# Altium integrated library FlybackKutuphane.IntLib: 24 symbols
Pins are listed as number, name and electrical type; pins without a type are passive.

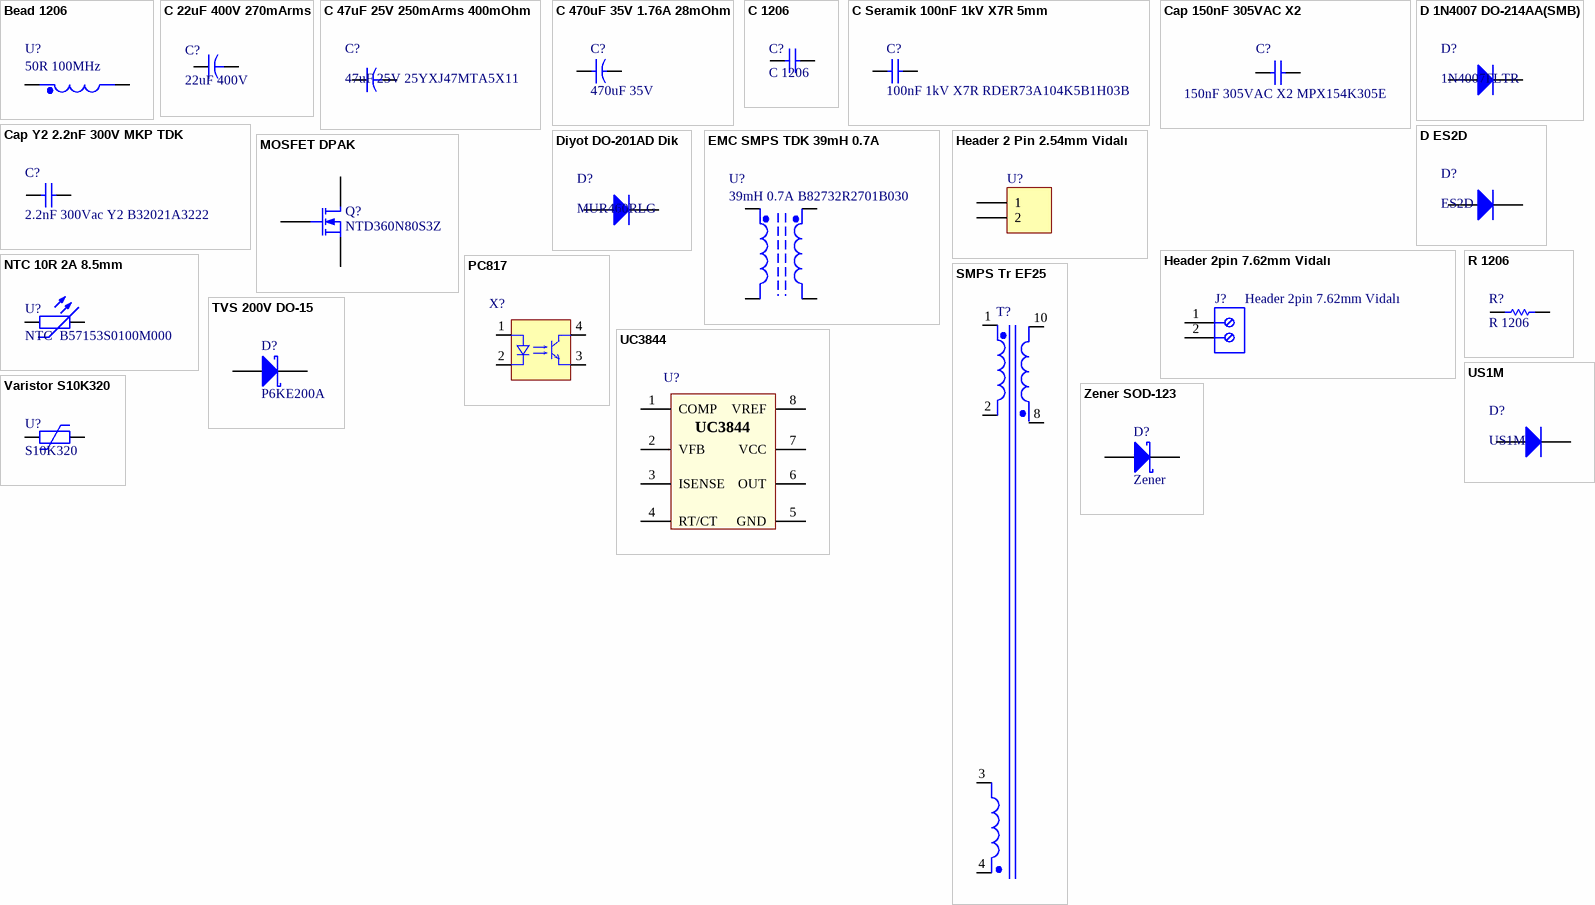
[diagram p0: symbols Bead 1206 to Zener SOD-123]

## Bead 1206
designator U?, comment 50R 100MHz
SMD 1206
footprint 1206 Bead
pins: 1, 2

## C 22uF 400V 270mArms
designator C?, comment 22uF 400V
400AX22MEFC12.5X16; Manufacturer_Name: AVX; Manufacturer_Part_Number: TPSE107K020R0150; Allied_Number: 70002020; Datasheet Link: http://datasheets.avx.com/TPS.pdf; Height: 4.3mm; Mouser Part Number: 581-TPSE107K020R0150; Mouser Price/Stock: https://www.mouser.com/Search/Refine.aspx?Keyword=581-TPSE107K020R0150; RS Part Number: 1359911P; RS Price/Stock: http://uk.rs-online.com/web/p/products/1359911P; Allied Price/Stock: http://www.alliedelec.com/avx-tpse107k020r0150/70002020/
footprint 22uF 400V (400AX22MEFC12.5X16)
pins: 1, 2

## C 47uF 25V 250mArms 400mOhm
designator C?, comment 47uF 25V 25YXJ47MTA5X11
1189-1590-1-ND; ComponentLink1Description: http://www.rubycon.co.jp/en/catalog/e_pdfs/aluminum/e_px.pdf
footprint CAPPRD200W50D525H1250
pins: 1, 2

## C 470uF 35V 1.76A 28mOhm
designator C?, comment 470uF 35V
860040475008; Published: 8-Jun-2000; LatestRevisionDate: 17-Jul-2002; LatestRevisionNote: Re-released for DXP Platform.; PackageReference: RAD-0.3; Publisher: Altium Limited; PackageDescription: Radial Cap, Thru-Hole; 2 Leads; 0.3 in Pin Spacing
footprint CAPPRD500W60D1025H1750
pins: 1, 2

## C 1206
designator C?
SMD 1206; Deger: *
footprint 1206
pins: 1, 2

## C Seramik 100nF 1kV X7R 5mm
designator C?, comment 100nF 1kV X7R RDER73A104K5B1H03B
490-8944-ND; Published: 8-Jun-2000; LatestRevisionDate: 17-Jul-2002; LatestRevisionNote: Re-released for DXP Platform.; PackageReference: RAD-0.3; Publisher: Altium Limited; PackageDescription: Radial Cap, Thru-Hole; 2 Leads; 0.3 in Pin Spacing
footprint RCE7U2J333J5B1H03B
pins: 1, 2

## Cap 150nF 305VAC X2
designator C?, comment 150nF 305VAC X2 MPX154K305E
1572-1789-ND; Part Number: 890273322005CS; Insulation Resistance: 30000MOhm; Dissipation Factor@100kHz: 0.26%; Dissipation Factor@1kHz: 0.1%; Pitch: 7.5mm; Rated Voltage: 250VDC; Rate of Voltage Rise: 340V/us; Technical Reference: MPPP075154J250DCPP45004; ComponentLink1Description: Manufacturer; ComponentLink1URL: http://www.we-online.de; ComponentLink2Description: Datasheet; ComponentLink2URL: https://katalog.we-online.com/pbs/datasheet/890273322005CS.pdf; Length: 10.5mm; Mounting Technology: THT; Packaging: Carton; Operating Temperature: -40 to +105degC; Width: 5mm; Capacitance: 150nF; Dissipation Factor@10kHz: 0.1%; Height: 11mm; Publisher: Wurth Elektronik; Published Date: August 2019
footprint CFR F15 L18 B6 H12
pins: 1, 2

## Cap Y2 2.2nF 300V MKP TDK
designator C?, comment 2.2nF 300Vac Y2 B32021A3222
495-4967-1-ND; Published: 8-Jun-2000; LatestRevisionDate: 17-Jul-2002; LatestRevisionNote: Re-released for DXP Platform.; PackageReference: RAD-0.3; Publisher: Altium Limited; PackageDescription: Radial Cap, Thru-Hole; 2 Leads; 0.3 in Pin Spacing
footprint 4x13x9
pins: 1, 2

## D 1N4007 DO-214AA(SMB)
designator D?, comment 1N4007FLTR
1655-1N4007FLCT-ND
footprint DO-214AA(SMB)
pins: 1 A, 2 K

## D ES2D
designator D?, comment ES2D
ES2DFSCT-ND
footprint DO-214AA(SMB)
pins: 1 A, 2 K

## Diyot DO-201AD Dik
designator D?, comment MUR460RLG
MUR460RLGOSCT-ND
footprint DO-201AD -Dik (Diode, Axial; Body 9.5 x 5.6 mm (LxDia. max), Lead Dia. 1.32 mm (max))
pins: 1 A, 2 K

## EMC SMPS TDK 39mH 0.7A
designator U?, comment 39mH 0.7A B82732R2701B030
495-2781-ND
footprint EMC SMPS TDK (B82732R13MM)
pins: 1, 2, 3, 4

## Header 2 Pin 2.54mm Vidalı
designator U?, comment Terminal Blok 2 Pin 2.54mm  (value not drawn)
691210910002; LatestRevisionDate: 17-Jul-2002; LatestRevisionNote: Re-released for DXP Platform.; Publisher: Altium Limited
footprint Header 2pin 2.54mm Vidalı
pins: 1, 2

## Header 2pin 7.62mm Vidalı
designator J?
691214410002; Part Number: 691218410002; Compliance: Lead free / RoHS; Modularity: Yes; PCB/Cable/Panel: PCB; Pin Number: 2; Rated Current [UL]: 30A; Working Voltage [UL]: 300VAC; ComponentLink1Description: Manufacturer; ComponentLink1URL: http://www.we-online.de; ComponentLink2URL: https://katalog.we-online.de/em/datasheet/691218410002.pdf; ComponentLink2Description: Datasheet; Mounting Technology: THT; Packaging: Box; Operating Temperature: -40 to +105degC; Pitch: 7.62mm; Published Date: October 2019; Type: Horizontal; Publisher: Wurth Elektronik; Application: Rising Cage Clamp
footprint Header 2 Pin 7.62mm Vidalı
pins: 1, 2

## MOSFET DPAK
designator Q?, comment NTD360N80S3Z
DPAK; Published: 8-Jun-2000; LatestRevisionDate: 17-Jul-2002; LatestRevisionNote: Re-released for DXP Platform.; PackageVersion: 1995/1996; PackageReference: E3; Publisher: Altium Limited; PackageDescription: TO, Flat Index; 3 In-Line, Axial Leads; Body Dia. 4.6mm; Lead Dia. 0.5 mm (max)
footprint DPAK IGBT
pins: 1 G, 2 D, 3 S

## NTC 10R 2A 8.5mm
designator U?, comment NTC  B57153S0100M000
495-2076-ND; Published: 8-Jun-2000; LatestRevisionDate: 17-Jul-2002; LatestRevisionNote: Re-released for DXP Platform.; PackageReference: AXIAL-0.4; Publisher: Altium Limited; PackageDescription: Axial Device, Thru-Hole; 2 Leads; 0.4 in Pin Spacing
footprint NTC B57153S0100
pins: 1, 2

## PC817
designator X?, comment PC81710NIP1B  (value not drawn)
1855-1014-1-ND
footprint PC817 SMD (DIP; 4 Leads; Row Spacing 7.62 mm; Pitch 2.54 mm)
pins: 1 A, 2 K, 3 E, 4 C

## R 1206
designator R?
SMD 1206; Deger: *
footprint R 1206
pins: 1, 2

## SMPS Tr EF25
designator T?, comment SMPS Tr  (value not drawn)
Sim Note: Enter the turns ratios, Core loss resistance, Magnetising Reactance, Leakage Reactances and Resistances referred to the primary side into the parameter fields.; Published: 25-Jan-2001; LatestRevisionDate: 17-Jul-2002; LatestRevisionNote: Re-released for DXP Platform.; PackageReference: TRF_8; Publisher: Altium Limited; PackageDescription: Transformer; 8 Leads
footprint SMPS Tr3
pins: 1 Pri+, 2 Pri-, 3 Sec3+, 4 Sec3-, 8, 10 Sec1+

## TVS 200V DO-15
designator D?, comment P6KE200A
497-13419-1-ND; Note: Pin 2 is not connected and not drawn.; Published: 21-Mar-2003; LatestRevisionDate: 29-May-2009; LatestRevisionNote: IPC-7351 Footprint Added.; DatasheetVersion: Oct-1999; PackageVersion: Sep-2001; PackageReference: SOT-23; Publisher: Altium Limited; PackageDescription: 3-Pin SOT-23 Package 0.95 mm Pitch, 2.5 mm Lead Span; ComponentLink1Description: Manufacturer Link; ComponentLink1URL: http://www.infineon.com/; ComponentLink2Description: Datasheet; ComponentLink2URL: http://www.infineon.com/upload/Document/cmc_upload/documents/009/363/bat17series.pdf
footprint DO-15((DO-204AC) (Diode, Axial; Body 9.5 x 5.6 mm (LxDia. max), Lead Dia. 1.32 mm (max))
pins: 1 A, 2 K

## UC3844
designator U?  (value not drawn)
SOIC8; PackageReference: SOIC-OA8
footprint SOIC-OA8_L (SOIC, 8-Leads, Body 4.9x3.9mm, Pitch 1.27mm, IPC High Density)
pins: 1 COMP (power), 2 VFB, 3 ISENSE, 4 RT/CT (power), 5 GND (power), 6 OUT (power), 7 VCC, 8 VREF

## US1M
designator D?
SMA
footprint DO-214AA(SMB)
pins: 1 A, 2 K

## Varistor S10K320
designator U?, comment S10K320
Published: 8-Jun-2000; LatestRevisionDate: 17-Jul-2002; LatestRevisionNote: Re-released for DXP Platform.; PackageReference: AXIAL-0.4; Publisher: Altium Limited; PackageDescription: Axial Device, Thru-Hole; 2 Leads; 0.4 in Pin Spacing
footprint Varistor630V
pins: 1, 2

## Zener SOD-123
designator D?, comment Zener
SOD-123; Note: Pin 2 is not connected and not drawn.; Published: 21-Mar-2003; LatestRevisionDate: 29-May-2009; LatestRevisionNote: IPC-7351 Footprint Added.; DatasheetVersion: Oct-1999; PackageVersion: Sep-2001; PackageReference: SOT-23; Publisher: Altium Limited; PackageDescription: 3-Pin SOT-23 Package 0.95 mm Pitch, 2.5 mm Lead Span; ComponentLink1Description: Manufacturer Link; ComponentLink1URL: http://www.infineon.com/; ComponentLink2Description: Datasheet; ComponentLink2URL: http://www.infineon.com/upload/Document/cmc_upload/documents/009/363/bat17series.pdf
footprint SOD-123
pins: 1 A, 2 K